# Altium footprint library MODULE.PCBLIB: 102 footprints (part 6 of 7)
Each footprint in its own frame and in the unit in brackets; x right, y up, seen from the top. Pads: shape width x height; smd on the part's side, far side on the other; paste and mask are expansions set on the pad; w line width, h text height; cw(c..) or ccw(c..) is an arc to the next point about the centre after c.
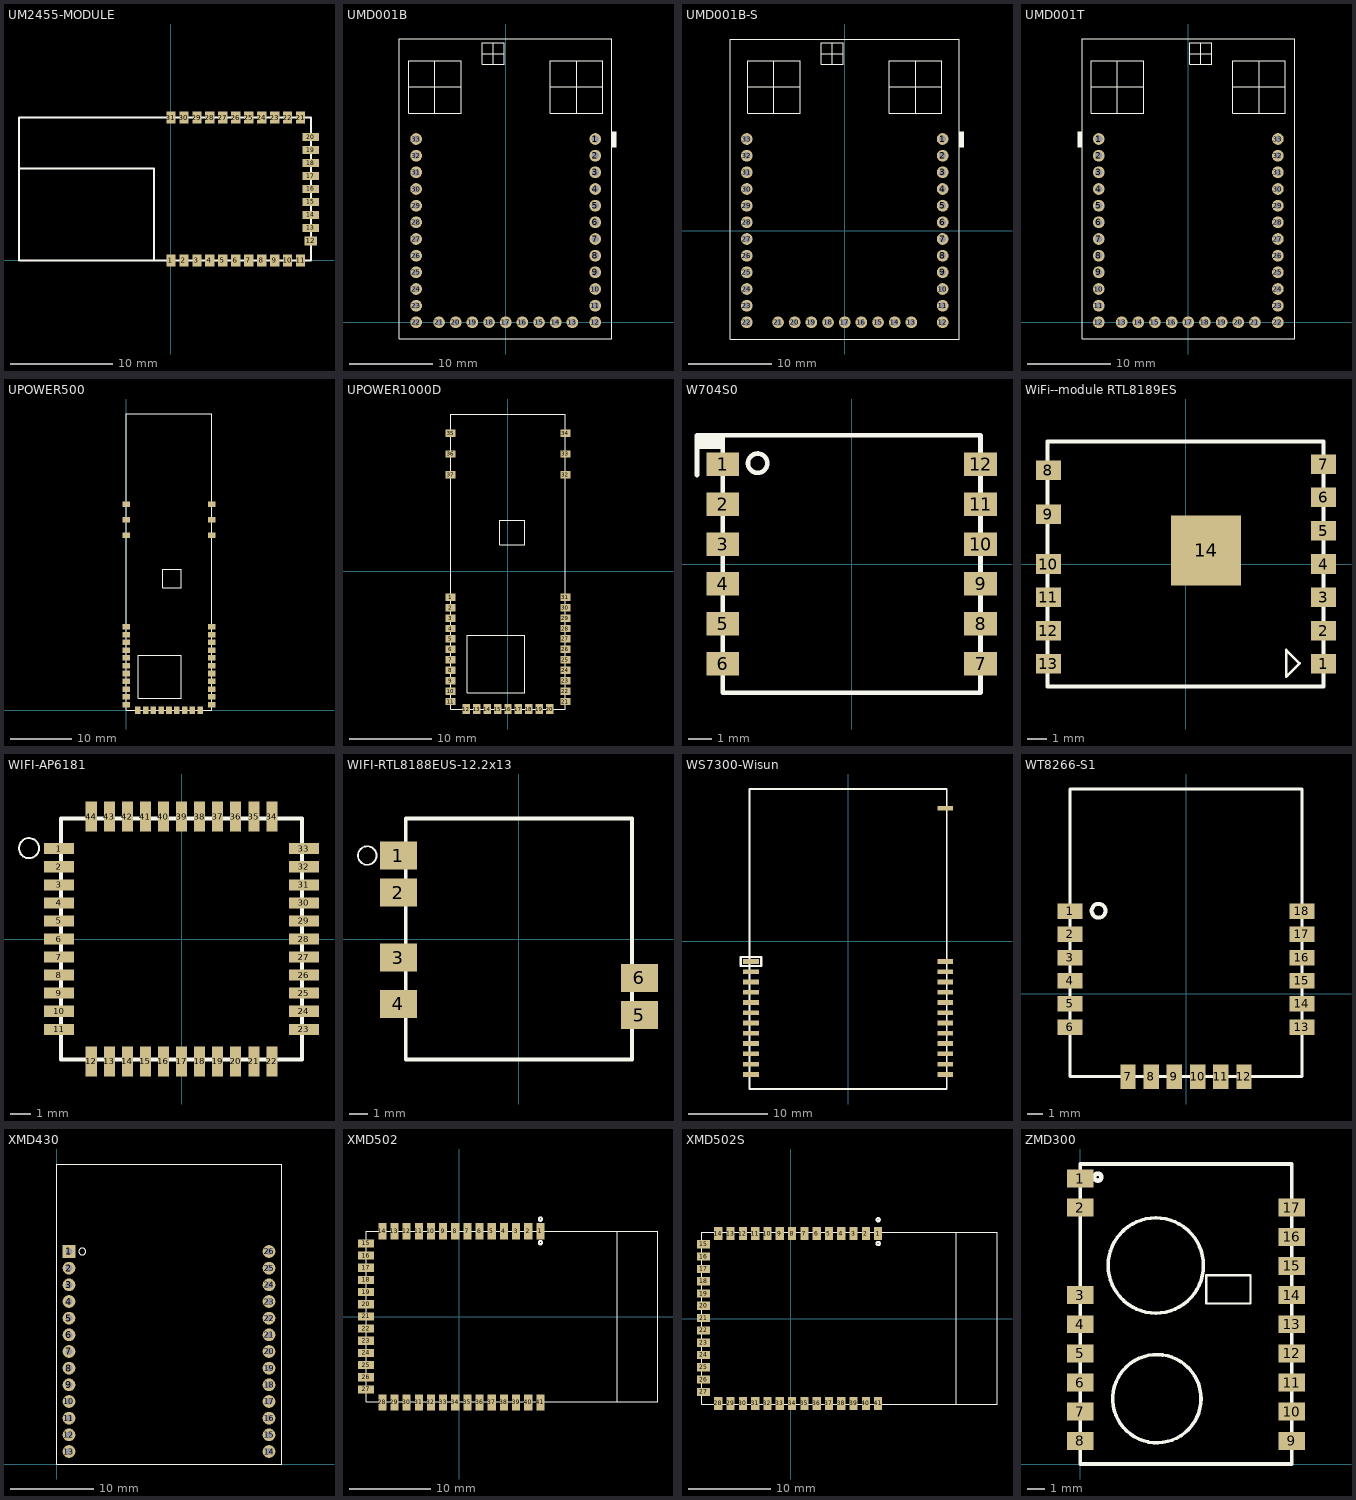
[diagram p5: the footprints below, top view; thin cyan lines are the x and y axes]

## UM2455-MODULE [mm]
pads (31):
  rect 0.9x1.2 smd mask+0.102: 1(0,0) 2(1.27,0) 3(2.54,0) 4(3.81,0) 5(5.08,0) 6(6.35,0) 7(7.62,0) 8(8.89,0) 9(10.16,0) 10(11.43,0) 11(12.7,0) 21(12.7,14) 22(11.43,14) 23(10.16,14) 24(8.89,14) 25(7.62,14) 26(6.35,14) 27(5.08,14) 28(3.81,14) 29(2.54,14) 30(1.27,14) 31(0,14)
  rect 1.2x0.9 smd mask+0.102: 12(13.7,1.92)
  rect 1.6x0.8 smd mask+0.102: 13(13.7,3.19) 14(13.7,4.46) 15(13.7,5.73) 16(13.7,7) 17(13.7,8.27) 18(13.7,9.54) 19(13.7,10.81) 20(13.7,12.08)
TopOverlay:
  lines w0.2: -14.88,9 -1.68,9 -1.68,0 ; -14.88,0 -14.88,14 13.7,14 13.7,0 -14.88,0

## UMD001B [mm]
pads (33):
  round 1.4 hole 0.85 mask+0.102: 1(10.75,22) 2(10.75,20) 3(10.75,18) 4(10.75,16) 5(10.75,14) 6(10.75,12) 7(10.75,10) 8(10.75,8) 9(10.75,6) 10(10.75,4) 11(10.75,2) 12(10.75,0) 13(8,0) 14(6,0) 15(4,0) 16(2,0) 17(0,0) 18(-2,0) 19(-4,0) 20(-6,0) 21(-8,0) 22(-10.75,0) 23(-10.75,2) 24(-10.75,4) 25(-10.75,6) 26(-10.75,8) 27(-10.75,10) 28(-10.75,12) 29(-10.75,14) 30(-10.75,16) 31(-10.75,18) 32(-10.75,20) 33(-10.75,22)
TopOverlay:
  region: 13.3,22.9 12.75,22.9 12.75,21 13.3,21
  lines w0.127: -11.65,28.25 -5.35,28.25 ; -8.5,25.1 -8.5,31.4 ; -2.8,32.25 -0.2,32.25 ; -1.5,30.95 -1.5,33.55 ; 5.35,28.25 11.65,28.25 ; 8.5,25.1 8.5,31.4 ; -12.75,-2 12.75,-2 12.75,34 -12.75,34 -12.75,-2 ; -11.65,25.1 -5.35,25.1 -5.35,31.4 -11.65,31.4 -11.65,25.1 ; -2.8,30.95 -0.2,30.95 -0.2,33.55 -2.8,33.55 -2.8,30.95 ; 5.35,25.1 11.65,25.1 11.65,31.4 5.35,31.4 5.35,25.1

## UMD001B-S [mm]
pads (33):
  round 1.4 hole 0.85 mask+0.102: 1(11.75,11) 2(11.75,9) 3(11.75,7) 4(11.75,5) 5(11.75,3) 6(11.75,1) 7(11.75,-1) 8(11.75,-3) 9(11.75,-5) 10(11.75,-7) 11(11.75,-9) 12(11.75,-11) 13(8,-11) 14(6,-11) 15(4,-11) 16(2,-11) 17(0,-11) 18(-2,-11) 19(-4,-11) 20(-6,-11) 21(-8,-11) 22(-11.75,-11) 23(-11.75,-9) 24(-11.75,-7) 25(-11.75,-5) 26(-11.75,-3) 27(-11.75,-1) 28(-11.75,1) 29(-11.75,3) 30(-11.75,5) 31(-11.75,7) 32(-11.75,9) 33(-11.75,11)
TopOverlay:
  region: 14.3,11.9 13.75,11.9 13.75,10 14.3,10
  lines w0.127: -11.65,17.25 -5.35,17.25 ; -8.5,14.1 -8.5,20.4 ; -2.8,21.25 -0.2,21.25 ; -1.5,19.95 -1.5,22.55 ; 5.35,17.25 11.65,17.25 ; 8.5,14.1 8.5,20.4 ; -13.75,-13 13.75,-13 13.75,23 -13.75,23 -13.75,-13 ; -11.65,14.1 -5.35,14.1 -5.35,20.4 -11.65,20.4 -11.65,14.1 ; -2.8,19.95 -0.2,19.95 -0.2,22.55 -2.8,22.55 -2.8,19.95 ; 5.35,14.1 11.65,14.1 11.65,20.4 5.35,20.4 5.35,14.1

## UMD001T [mm]
pads (33):
  round 1.4 hole 0.85 mask+0.102: 1(-10.75,22) 2(-10.75,20) 3(-10.75,18) 4(-10.75,16) 5(-10.75,14) 6(-10.75,12) 7(-10.75,10) 8(-10.75,8) 9(-10.75,6) 10(-10.75,4) 11(-10.75,2) 12(-10.75,0) 13(-8,0) 14(-6,0) 15(-4,0) 16(-2,0) 17(0,0) 18(2,0) 19(4,0) 20(6,0) 21(8,0) 22(10.75,0) 23(10.75,2) 24(10.75,4) 25(10.75,6) 26(10.75,8) 27(10.75,10) 28(10.75,12) 29(10.75,14) 30(10.75,16) 31(10.75,18) 32(10.75,20) 33(10.75,22)
TopOverlay:
  rectangle: -13.3,21 -12.75,22.9
  lines w0.127: -11.65,28.25 -5.35,28.25 ; -8.5,25.1 -8.5,31.4 ; 0.2,32.25 2.8,32.25 ; 1.5,30.95 1.5,33.55 ; 5.35,28.25 11.65,28.25 ; 8.5,25.1 8.5,31.4 ; -12.75,-2 12.75,-2 12.75,34 -12.75,34 -12.75,-2 ; -11.65,25.1 -11.65,31.4 -5.35,31.4 -5.35,25.1 -11.65,25.1 ; 0.2,30.95 0.2,33.55 2.8,33.55 2.8,30.95 0.2,30.95 ; 5.35,25.1 5.35,31.4 11.65,31.4 11.65,25.1 5.35,25.1

## UPOWER500 [mm]
pads (37):
  rect 1.2x0.9 smd mask+0.102: 1(0,13.62) 2(0,12.35) 3(0,11.08) 4(0,9.81) 5(0,8.54) 6(0,7.27) 7(0,6) 8(0,4.73) 9(0,3.46) 10(0,2.19) 11(0,0.92) 21(13.96,0.92) 22(13.96,2.19) 23(13.96,3.46) 24(13.96,4.73) 25(13.96,6) 26(13.96,7.27) 27(13.96,8.54) 28(13.96,9.81) 29(13.96,11.08) 30(13.96,12.35) 31(13.96,13.62) 32(13.96,28.52) 33(13.96,31.06) 34(13.96,33.6) 35(0,33.6) 36(0,31.06) 37(0,28.52)
  rect 0.9x1.2 smd mask+0.102: 12(1.9,0) 13(3.17,0) 14(4.44,0) 15(5.71,0) 16(6.98,0) 17(8.25,0) 18(9.52,0) 19(10.79,0) 20(12.06,0)
TopOverlay:
  lines w0.127: 0,0 13.96,0 13.96,48.3 0,48.3 0,0 ; 2,2 2,9 9,9 9,2 2,2 ; 6,20 6,23 9,23 9,20 6,20

## UPOWER1000D [mm]
pads (37):
  rect 1.2x0.9 smd mask+0.102: 1(-6.98,-3.18) 2(-6.98,-4.45) 3(-6.98,-5.72) 4(-6.98,-6.99) 5(-6.98,-8.26) 6(-6.98,-9.53) 7(-6.98,-10.8) 8(-6.98,-12.07) 9(-6.98,-13.34) 10(-6.98,-14.61) 11(-6.98,-15.88) 21(6.98,-15.88) 22(6.98,-14.61) 23(6.98,-13.34) 24(6.98,-12.07) 25(6.98,-10.8) 26(6.98,-9.53) 27(6.98,-8.26) 28(6.98,-6.99) 29(6.98,-5.72) 30(6.98,-4.45) 31(6.98,-3.18) 32(6.98,11.72) 33(6.98,14.26) 34(6.98,16.8) 35(-6.98,16.8) 36(-6.98,14.26) 37(-6.98,11.72)
  rect 0.9x1.2 smd mask+0.102: 12(-5.08,-16.8) 13(-3.81,-16.8) 14(-2.54,-16.8) 15(-1.27,-16.8) 16(0,-16.8) 17(1.27,-16.8) 18(2.54,-16.8) 19(3.81,-16.8) 20(5.08,-16.8)
TopOverlay:
  lines w0.127: -6.98,-16.8 -6.98,19.13 6.98,19.13 6.98,-16.8 -6.98,-16.8 ; -4.98,-14.8 2.02,-14.8 2.02,-7.8 -4.98,-7.8 -4.98,-14.8 ; -0.98,3.2 2.02,3.2 2.02,6.2 -0.98,6.2 -0.98,3.2

## W704S0 [mm]
pads (12):
  rect 1.4x1 smd mask+0.102: 1(-5.5,4.25) 2(-5.5,2.55) 3(-5.5,0.85) 4(-5.5,-0.85) 5(-5.5,-2.55) 6(-5.5,-4.25) 7(5.5,-4.25) 8(5.5,-2.55) 9(5.5,-0.85) 10(5.5,0.85) 11(5.5,2.55) 12(5.5,4.25)
TopOverlay:
  circle w0.2: c-4.012,4.3 r0.412
  rectangle: -6.6,5 -5.5,5.5
  lines w0.2: -6.6,3.8 -6.6,5 ; -5.5,5 -6.6,5 ; -6.6,5 -6.6,5.5 -5.5,5.5 ; -5.5,5.5 -5.5,-5.5 5.5,-5.5 5.5,5.5 -5.5,5.5

## WiFi--module RTL8189ES [mm] "WiFi--module RTL8189ES"
pads (14):
  rect 1.27x1 smd: 1(7.05,-5.1) 2(7.05,-3.4) 3(7.05,-1.7) 4(7.05,0) 5(7.05,1.7) 6(7.05,3.4) 7(7.05,5.1) 8(-7,4.78) 9(-7,2.53) 10(-7,0) 11(-7,-1.7) 12(-7,-3.4) 13(-7,-5.1)
  rect 3.56x3.56 smd: 14(1.05,0.69)
TopOverlay:
  lines w0.127: 5.137,-5.763 5.137,-4.387 5.825,-5.075 5.137,-5.762
  lines w0.2: -7.05,-6.25 7.05,-6.25 7.05,6.25 -7.05,6.25 -7.05,-6.25

## WIFI-AP6181 [mm] "WIFI-AP6181"
pads (44):
  rect 1.5x0.55 smd: 1(-6.1,4.5) 2(-6.1,3.6) 3(-6.1,2.7) 4(-6.1,1.8) 5(-6.1,0.9) 6(-6.1,0) 7(-6.1,-0.9) 8(-6.1,-1.8) 9(-6.1,-2.7) 10(-6.1,-3.6) 11(-6.1,-4.5) 23(6.1,-4.5) 24(6.1,-3.6) 25(6.1,-2.7) 26(6.1,-1.8) 27(6.1,-0.9) 28(6.1,0) 29(6.1,0.9) 30(6.1,1.8) 31(6.1,2.7) 32(6.1,3.6) 33(6.1,4.5)
  rect 0.55x1.5 smd: 12(-4.5,-6.1) 13(-3.6,-6.1) 14(-2.7,-6.1) 15(-1.8,-6.1) 16(-0.9,-6.1) 17(0,-6.1) 18(0.9,-6.1) 19(1.8,-6.1) 20(2.7,-6.1) 21(3.6,-6.1) 22(4.5,-6.1) 34(4.5,6.1) 35(3.6,6.1) 36(2.7,6.1) 37(1.8,6.1) 38(0.9,6.1) 39(0,6.1) 40(-0.9,6.1) 41(-1.8,6.1) 42(-2.7,6.1) 43(-3.6,6.1) 44(-4.5,6.1)
TopOverlay:
  circle w0.1: c-7.6,4.525 r0.5
  lines w0.2: -6,-6 6,-6 6,6 -6,6 -6,-6

## WIFI-RTL8188EUS-12.2x13 [mm] "WIFI-RTL8188EUS-12.2x13"
pads (6):
  rect 2x1.5 smd: 1(-6.5,4.5) 2(-6.5,2.5) 3(-6.5,-1) 4(-6.5,-3.5) 5(6.5,-4.1) 6(6.5,-2.1)
TopOverlay:
  circle w0.1: c-8.175,4.5 r0.5
  lines w0.2: -6.1,-6.5 -6.1,6.5 6.1,6.5 6.1,-6.5 -6.1,-6.5

## WS7300-Wisun [mm] "WS7300-Wisun"
pads (25):
  rect 2x0.6 smd mask+0.102: 1(-12.3,-2.564) 2(-12.3,-3.864) 3(-12.3,-5.164) 4(-12.3,-6.464) 5(-12.3,-7.764) 6(-12.3,-9.064) 7(-12.3,-10.364) 8(-12.3,-11.664) 9(-12.3,-12.964) 10(-12.3,-14.264) 11(-12.3,-15.564) 12(-12.3,-16.864) 13(12.3,-16.864) 14(12.3,-15.564) 15(12.3,-14.264) 16(12.3,-12.964) 17(12.3,-11.664) 18(12.3,-10.364) 19(12.3,-9.064) 20(12.3,-7.764) 21(12.3,-6.464) 22(12.3,-5.164) 23(12.3,-3.864) 24(12.3,-2.564) 25(12.3,16.864)
TopOverlay:
  lines w0.2: -12.5,-18.714 -12.5,19.286 12.5,19.286 12.5,-18.714 -12.5,-18.714
  lines w0.3: -13.6,-2.014 -13.6,-3.139 -11,-3.139 -11,-1.989 -13.6,-1.989

## WT8266-S1 [mm] "WT8266-S1"
pads (18):
  rect 1.6x1 smd: 1(-7.5,5.35) 2(-7.5,3.85) 3(-7.5,2.35) 4(-7.5,0.85) 5(-7.5,-0.65) 6(-7.5,-2.15) 13(7.5,-2.15) 14(7.5,-0.65) 15(7.5,0.85) 16(7.5,2.35) 17(7.5,3.85) 18(7.5,5.35)
  rect 1x1.6 smd: 7(-3.75,-5.35) 8(-2.25,-5.35) 9(-0.75,-5.35) 10(0.75,-5.35) 11(2.25,-5.35) 12(3.75,-5.35)
TopOverlay:
  circle w0.254: c-5.649,5.374 r0.45
  lines w0.2: -7.5,-5.35 -7.5,13.25 7.5,13.25 7.5,-5.35 -7.5,-5.35

## XMD430 [mm] "XMD430"
pads (26):
  rect 1.524x1.524 hole 0.85: 1(1.5,25.5)
  round 1.524 hole 0.85: 2(1.5,23.5) 3(1.5,21.5) 4(1.5,19.5) 5(1.5,17.5) 6(1.5,15.5) 7(1.5,13.5) 8(1.5,11.5) 9(1.5,9.5) 10(1.5,7.5) 11(1.5,5.5) 12(1.5,3.5) 13(1.5,1.5) 14(25.5,1.5) 15(25.5,3.5) 16(25.5,5.5) 17(25.5,7.5) 18(25.5,9.5) 19(25.5,11.5) 20(25.5,13.5) 21(25.5,15.5) 22(25.5,17.5) 23(25.5,19.5) 24(25.5,21.5) 25(25.5,23.5) 26(25.5,25.5)
TopOverlay:
  circle w0.1: c3.088,25.5 r0.412
  lines w0.127: 0,0 0,36 27,36 27,0 0,0

## XMD502 [mm]
pads (41):
  rect 1x2 smd mask+0.102: 1(10,10.55) 2(8.5,10.55) 3(7,10.55) 4(5.5,10.55) 5(4,10.55) 6(2.5,10.55) 7(1,10.55) 8(-0.5,10.55) 9(-2,10.55) 10(-3.5,10.55) 11(-5,10.55) 12(-6.5,10.55) 13(-8,10.55) 14(-9.5,10.55) 28(-9.5,-10.55) 29(-8,-10.55) 30(-6.5,-10.55) 31(-5,-10.55) 32(-3.5,-10.55) 33(-2,-10.55) 34(-0.5,-10.55) 35(1,-10.55) 36(2.5,-10.55) 37(4,-10.55) 38(5.5,-10.55) 39(7,-10.55) 40(8.5,-10.55) 41(10,-10.55)
  rect 2x1 smd mask+0.102: 15(-11.5,9.05) 16(-11.5,7.55) 17(-11.5,6.05) 18(-11.5,4.55) 19(-11.5,3.05) 20(-11.5,1.55) 21(-11.5,0.05) 22(-11.5,-1.45) 23(-11.5,-2.95) 24(-11.5,-4.45) 25(-11.5,-5.95) 26(-11.5,-7.45) 27(-11.5,-8.95)
TopOverlay:
  circle w0.254: c10,12.05 r0.2
  circle w0.254: c10,9.15 r0.2
  lines w0.127: 19.5,-10.45 19.5,10.55 ; -11.5,-10.45 -11.5,10.55 24.5,10.55 24.5,-10.45 -11.5,-10.45

## XMD502S [mm]
pads (41):
  rect 1x1.6 smd mask+0.102: 1(10.65,10.35) 2(9.15,10.35) 3(7.65,10.35) 4(6.15,10.35) 5(4.65,10.35) 6(3.15,10.35) 7(1.65,10.35) 8(0.15,10.35) 9(-1.35,10.35) 10(-2.85,10.35) 11(-4.35,10.35) 12(-5.85,10.35) 13(-7.35,10.35) 14(-8.85,10.35) 28(-8.85,-10.35) 29(-7.35,-10.35) 30(-5.85,-10.35) 31(-4.35,-10.35) 32(-2.85,-10.35) 33(-1.35,-10.35) 34(0.15,-10.35) 35(1.65,-10.35) 36(3.15,-10.35) 37(4.65,-10.35) 38(6.15,-10.35) 39(7.65,-10.35) 40(9.15,-10.35) 41(10.65,-10.35)
  rect 1.6x1 smd mask+0.102: 15(-10.65,9.05) 16(-10.65,7.55) 17(-10.65,6.05) 18(-10.65,4.55) 19(-10.65,3.05) 20(-10.65,1.55) 21(-10.65,0.05) 22(-10.65,-1.45) 23(-10.65,-2.95) 24(-10.65,-4.45) 25(-10.65,-5.95) 26(-10.65,-7.45) 27(-10.65,-8.95)
TopOverlay:
  circle w0.254: c10.65,9.15 r0.2
  circle w0.254: c10.65,12.05 r0.2
  lines w0.127: 20.15,-10.45 20.15,10.55 ; -10.85,-10.45 25.15,-10.45 25.15,10.55 -10.85,10.55 -10.85,-10.45

## ZMD300 [mm]
pads (17):
  rect 1.5x1.016 smd mask+0.102: 1(0,16.174) 2(0,14.523) 3(0,9.57) 4(0,7.919) 5(0,6.268) 6(0,4.617) 7(0,2.966) 8(0,1.315) 9(12,1.315) 10(12,2.966) 11(12,4.617) 12(12,6.268) 13(12,7.919) 14(12,9.57) 15(12,11.221) 16(12,12.872) 17(12,14.523)
TopOverlay:
  circle w0.254: c1,16.258 r0.2
  circle w0.2: c4.35,3.7 r2.5
  circle w0.2: c4.29,11.25 r2.7
  lines w0.127: 7.15,9.1 7.15,10.7 9.65,10.7 9.65,9.1 7.15,9.1
  lines w0.2: 0,0 12,0 12,17 0,17 0,0